# Altium footprint library 51.PcbLib: 1 footprints
Each footprint in its own frame and in the unit in brackets; x right, y up, seen from the top. Pads: shape width x height; smd on the part's side, far side on the other; paste and mask are expansions set on the pad; w line width, h text height; cw(c..) or ccw(c..) is an arc to the next point about the centre after c.
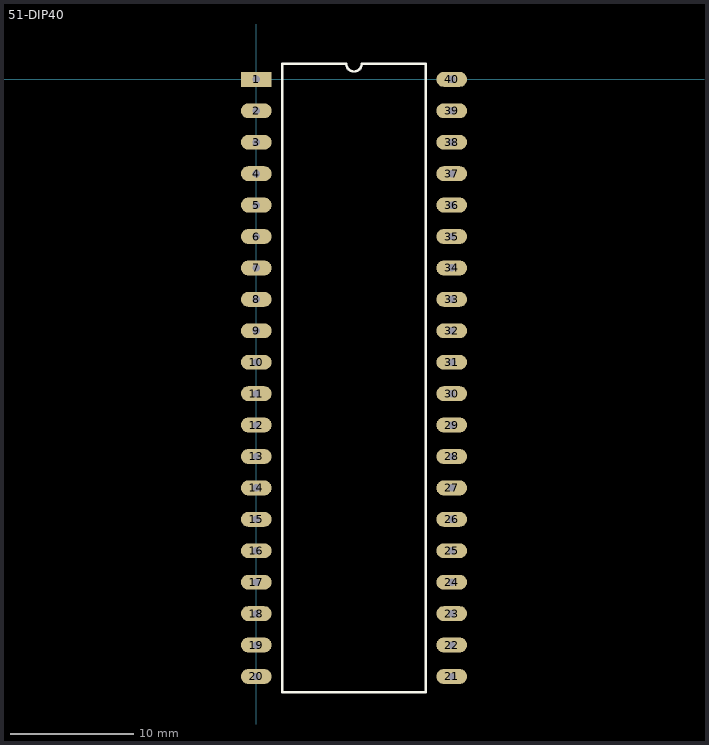
[diagram p0: the footprint, top view; thin cyan lines are the x and y axes]

## 51-DIP40 [mm]
pads (40):
  rect 2.5x1.2 hole 0.6: 1(0,0)
  oval 2.5x1.2 hole 0.6: 2(0,-2.54) 3(0,-5.08) 4(0,-7.62) 5(0,-10.16) 6(0,-12.7) 7(0,-15.24) 8(0,-17.78) 9(0,-20.32) 10(0,-22.86) 11(0,-25.4) 12(0,-27.94) 13(0,-30.48) 14(0,-33.02) 15(0,-35.56) 16(0,-38.1) 17(0,-40.64) 18(0,-43.18) 19(0,-45.72) 20(0,-48.26) 21(15.8,-48.26) 22(15.8,-45.72) 23(15.8,-43.18) 24(15.8,-40.64) 25(15.8,-38.1) 26(15.8,-35.56) 27(15.8,-33.02) 28(15.8,-30.48) 29(15.8,-27.94) 30(15.8,-25.4) 31(15.8,-22.86) 32(15.8,-20.32) 33(15.8,-17.78) 34(15.8,-15.24) 35(15.8,-12.7) 36(15.8,-10.16) 37(15.8,-7.62) 38(15.8,-5.08) 39(15.8,-2.54) 40(15.8,0)
Top Overlay:
  lines w0.2: 2.085,-49.53 13.715,-49.53 13.715,1.27 8.535,1.27 cw(c7.9,1.27) 7.265,1.27 2.085,1.27 2.085,-49.53